# Altium schematic symbol library FireFlow.SchLib: 30 symbols
Pins are listed as number, name and electrical type; pins without a type are passive.

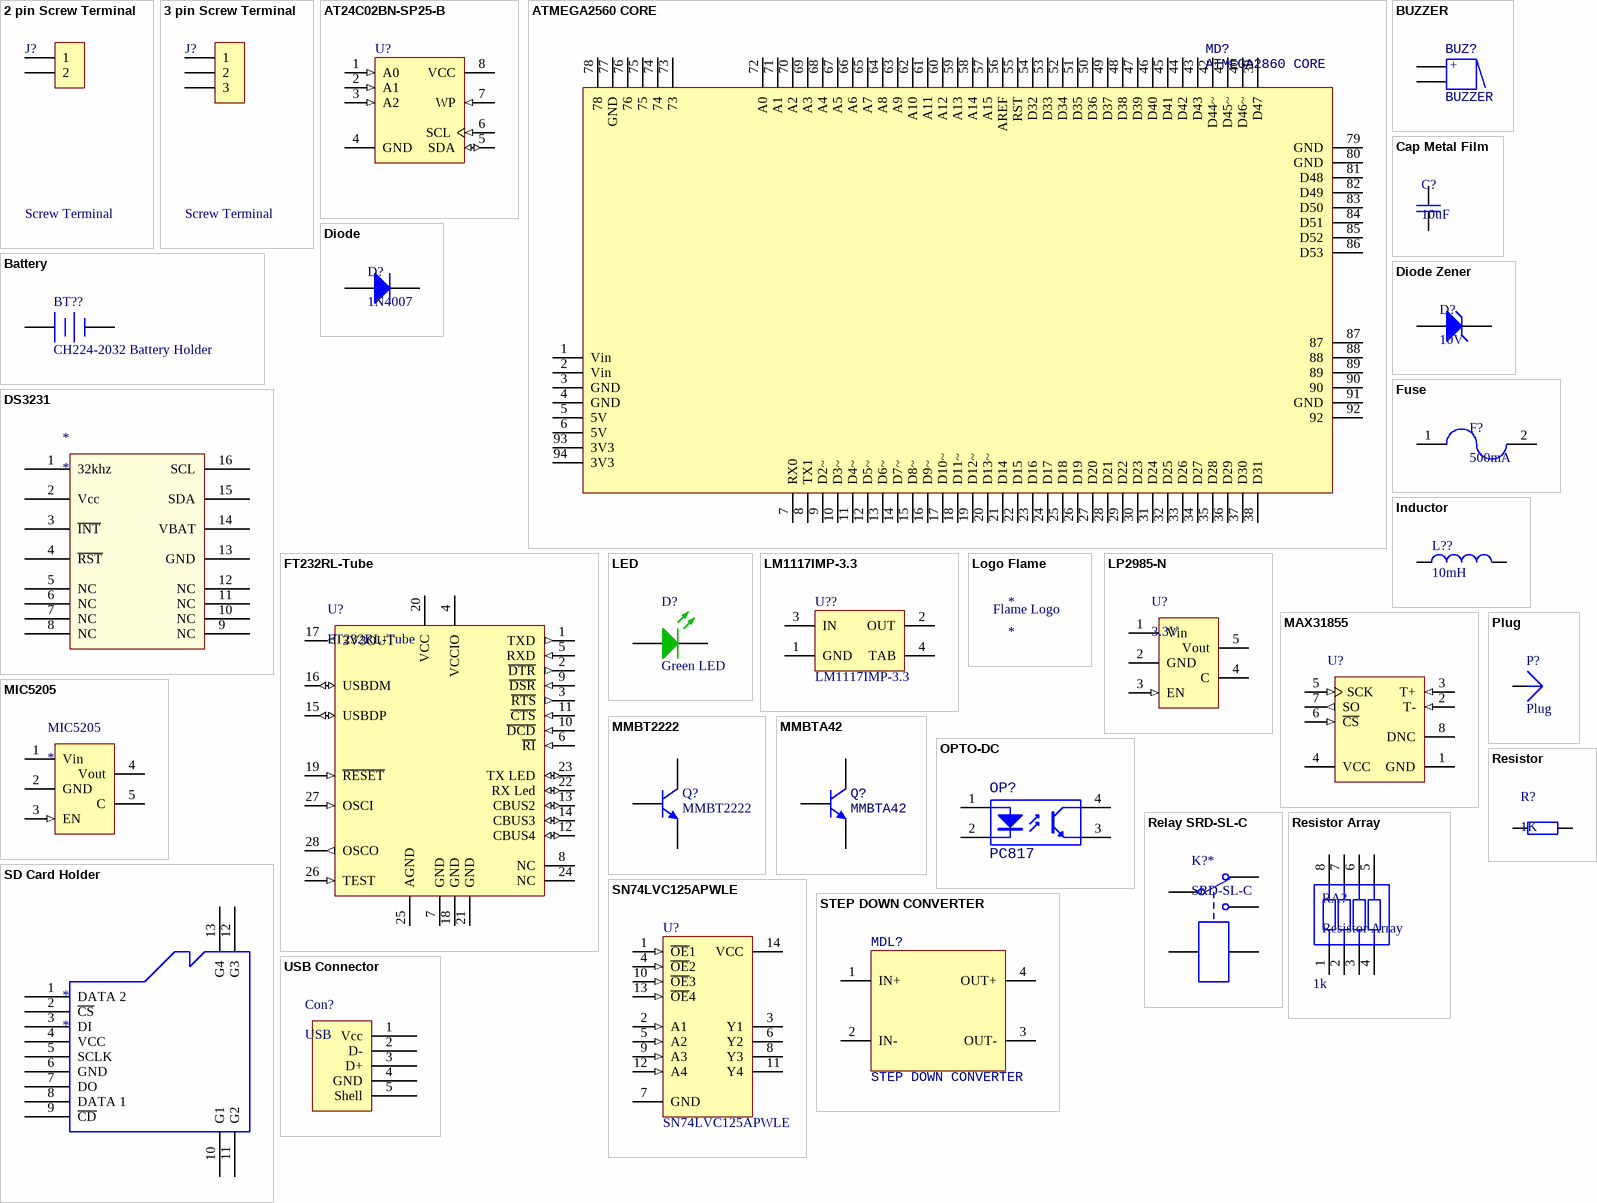
[diagram p0: symbols 2 pin Screw Terminal to USB Connector]

## 2 pin Screw Terminal
designator J?, comment Screw Terminal
WR-TBL Terminal block - serie 102 - 5.0mm; ComponentLink2 Description: Datasheet; NoPins: 2; ComponentLink2URL: http://katalog.we-online.de/em/datasheet/6911027100xx.pdf
footprint 2pin ST (5,00mm - modular - blue - Horizontal entry with pressure clamp - 9,9 mm height - 02p)
pins: 1, 2

## 3 pin Screw Terminal
designator J?, comment Screw Terminal
WR-TBL Terminal block - serie 102 - 5.0mm; ComponentLink2 Description: Datasheet; NoPins: 3; ComponentLink2URL: http://katalog.we-online.de/em/datasheet/6911027100xx.pdf
footprint 3pin ST (5,00mm - modular - blue - Horizontal entry with pressure clamp - 9,9 mm height - 03p)
pins: 1, 2, 3

## AT24C02BN-SP25-B
designator U?
2Kbit (256 x 8), 2-wire Bus Automotive Serial EEPROM with full memory Write Protect, 2.5V, 8-Pin SOIC, Bulk; Published: 20-Sep-2010; DatasheetVersion: 8517C,  Jan-2009; PackageVersion: revC, Mar-2005; PackageReference: 8S1; Publisher: Altium Limited; PackageDescription: 8-Lead (0.150" Wide Body), Plastic Gull Wing Small Outline (JEDEC SOIC); Code_JEDEC: MS-012-AA; Code_IPC: SOIC127P600-8; ComponentLink1Description: Manufacturer Link; ComponentLink1URL: http://www.atmel.com/products/serial/default.asp; ComponentLink2Description: Datasheet; ComponentLink2URL: http://www.atmel.com/dyn/resources/prod_documents/doc8517.pdf; ComponentLink3Description: Atmel.com Home; ComponentLink3URL: http://www.atmel.com
footprint S8 (SOIC, 8-Leads, Body 4.9x3.9mm, Pitch 1.27mm, IPC Low Density)
pins: 1 A0 (in), 2 A1 (in), 3 A2 (in), 4 GND (power), 5 SDA (io), 6 SCL (in), 7 WP (in), 8 VCC (power)

## ATMEGA2560 CORE
designator MD?, comment ATMEGA2860 CORE
footprint ATMEGA 2560 CORE
pins: 1 Vin, 2 Vin, 3 GND, 4 GND, 5 5V, 6 5V, 7 RX0, 8 TX1, 9 D2~, 10 D3~, 11 D4~, 12 D5~, 13 D6~, 14 D7~, 15 D8~, 16 D9~, 17 D10~, 18 D11~, 19 D12~, 20 D13~, 21 D14, 22 D15, 23 D16, 24 D17, 25 D18, 26 D19, 27 D20, 28 D21, 29 D22, 30 D23, 31 D24, 32 D25, 33 D26, 34 D27, 35 D28, 36 D29, 37 D30, 38 D31, 39 D47, 40 D46~, 41 D45~, 42 D44~, 43 D43, 44 D42, 45 D41, 46 D40, 47 D39, 48 D38, 49 D37, 50 D36, 51 D35, 52 D34, 53 D33, 54 D32, 55 RST, 56 AREF, 57 A15, 58 A14, 59 A13, 60 A12, 61 A11, 62 A10, 63 A9, 64 A8, 65 A7, 66 A6, 67 A5, 68 A4, 69 A3, 70 A2, 71 A1, 72 A0, 73, 74, 75, 76, 77 GND, 78, 79 GND, 80 GND, 81 D48, 82 D49, 83 D50, 84 D51, 85 D52, 86 D53, 87, 88, 89, 90, 91 GND, 92, 93 3V3, 94 3V3

## Battery
designator BT??, comment CH224-2032 Battery Holder
Multicell Battery
footprint CH224-2032 Battery Holder
pins: 1 +, 2 -

## BUZZER
designator BUZ?
footprint BUZZER
pins: 1, 2
text: +

## Cap Metal Film
designator C?, comment 10uF
Value: 10uF
footprint CC2013-0805 (Chip Capacitor; Body 2.0 x 1.3 mm (LxW typ))
pins: 1, 2

## Diode
designator D?, comment 1N4007
Value: 1N4007
footprint CD2012-0805 (Chip Diode; Body 2.0 x 1.3 mm (LxW typ))
pins: A, K

## Diode Zener
designator D?, comment 10V
Value: 10V
pins: A, K

## DS3231
designator *
footprint SO-G16/D10.4 (Small Outline, Plastic; 16 Leads; Body Width 7.5 mm)
pins: 1 32khz, 2 Vcc (power), 3 ~{INT}, 4 ~{RST}, 5 NC, 6 NC, 7 NC, 8 NC, 9 NC, 10 NC, 11 NC, 12 NC, 13 GND, 14 VBAT, 15 SDA, 16 SCL

## FT232RL-Tube
designator U?
USB UART Asynchronous Serial Data Transfer Chip, SSOP-28, Tube; PackageReference: SSOP-28; PackageDescription: 28-Pin Small Outline Package 0.65 mm Pitch
footprint SSOP-28_N (SOP, 28-Leads, Body 10.2x5.3mm, Pitch 0.65mm, IPC Medium Density)
pins: 1 TXD (out), 2 ~{DTR} (out), 3 ~{RTS} (out), 4 VCCIO (power), 5 RXD (in), 6 ~{RI} (in), 7 GND (power), 8 NC, 9 ~{DSR} (in), 10 ~{DCD} (in), 11 ~{CTS} (in), 12 CBUS4 (io), 13 CBUS2 (io), 14 CBUS3 (io), 15 USBDP (io), 16 USBDM (io), 17 3V3OUT (out), 18 GND (power), 19 ~{RESET} (in), 20 VCC (power), 21 GND (power), 22 RX Led (io), 23 TX LED (io), 24 NC, 25 AGND (power), 26 TEST (in), 27 OSCI (in), 28 OSCO (out)

## Fuse
designator F?, comment 500mA
PPTC; Value: 500mA
footprint CF-1812 (Chip Resistor; Body 4.5 x 3.2 mm (LxW typ))
pins: 1, 2

## Inductor
designator L??, comment 10mH
Inductor; Value: 10mH
footprint INDC2012-0805 (Chip Inductor; Body 2 x 1.2 mm (LxW typ))
pins: 1, 2

## LED
designator D?, comment Green LED
RED
footprint CD3216-1206 (Chip Diode; Body 3.2 x 1.6 mm (LxW typ))
pins: 1 A, 2 K

## LM1117IMP-3.3
designator U??
800mA Low-Dropout Linear Regulator, 4-pin SOT-223; Manufacturer: National Semiconductor; PackageTopMarking: XYTT*N05B; PowerWise: N; CompType: LDO IC; Published: 4-Dec-2008; DatasheetVersion: Apr-2006; PackageVersion: revB, Apr-2003; PackageReference: MP04A; Publisher: Altium Limited; PackageDescription: Molded SOT-223, 6.50 x 3.56 x 1.6mm Body, 4 Lead, 2.3mm Pitch; PartNumber: LM1117IMP-3.3; RoHS: N; PinCount: 4; Code_JEDEC: TO-261-AA; Code_IPC: SOT223-4; ComponentLink1Description: LM1117 Datasheet; ComponentLink1URL: http://www.national.com/ds/LM/LM1117.pdf; ComponentLink2Description: LM1117 Web Page; ComponentLink2URL: http://www.national.com/pf/LM/LM1117.html; ComponentLink3Description: MP04A Package Page; ComponentLink3URL: http://www.national.com/packaging/folders/mp04a.html
footprint MP04A_N (SOT223, 4-Leads, Body 6.5x3.5mm, Pitch 2.3mm, Lead Span 7mm, IPC Medium Density)
pins: 1 GND (power), 2 OUT (power), 3 IN (power), 4 TAB (power)

## Logo Flame
designator *
footprint LogoF Bot Cu (Flame Logo on Bot Cu)
footprint LogoF Bot OL (Flame Logo on Bot OverLay)
footprint LogoF Top Cu (Flame Logo on Top Cu)
footprint LogoF Top OL (Logo Flame Top OverLay)
text: Flame Logo

## LP2985-N
designator U?, comment 3.3V
Value: 3.3V
footprint SO-G5/P.95 (SOT-23/SC-74A; 5 Leads; Body 3.1 x 3 mm, inc. leads (LxW max))
pins: 1 Vin (power), 2 GND (power), 3 EN (in), 4 C, 5 Vout (power)

## MAX31855
designator U?
Cold Junction Compensated Thermocouple to Digital Converter, 14 Bits Temperature Resolution, -40 to 125 degC, 8-Pin SOIC (S8+4), Pb-Free, Tape ang Reel; Generic Part Number: MAX31855; Functions: Thermocouple-to-Digital Converter; Interface: SPI; PackageReference: S8+4; PackageDescription: 8-Pin Small-Outline IC, Narrow, Body 3.9 x 4.9 mm, Pitch 1.27 mm; Mounting Technology: Surface Mount
footprint S8 (SOIC, 8-Leads, Body 4.9x3.9mm, Pitch 1.27mm, IPC Low Density)
pins: 1 GND (power) "Ground", 2 T- (in) "Thermocouple Input. See Table 1. Do not connect to GND.", 3 T+ (in) "Thermocouple Input. See Table 1.", 4 VCC (power) "Power-Supply Voltage", 5 SCK (in) "Serial-Clock Input", 6 ~{CS} (in) "Active-Low Chip Select. Set C\S\ low to enable the serial interface.", 7 SO (out) "Serial-Data Output", 8 DNC "Do Not Connect"

## MIC5205
designator MIC5205
footprint SO-G5/P.95 (SOT-23/SC-74A; 5 Leads; Body 3.1 x 3 mm, inc. leads (LxW max))
pins: 1 Vin (power), 2 GND (power), 3 EN (in), 4 Vout (power), 5 C

## MMBT2222
designator Q?
NPN General Purpose Amplifier; Value: MMBT2222
footprint SO-G3 (SOT-23; 3 Leads; Body 3.0 x 2.6 mm, inc. leads (LxW max))
pins: 1 B, 2 E, 3 C

## MMBTA42
designator Q?
NPN Bipolar Transistor; Published: 8-Jun-2000; LatestRevisionDate: 17-Jul-2002; LatestRevisionNote: Re-released for DXP Platform.; PackageReference: TO-226; Publisher: Altium Limited; Code_JEDEC: TO-226-AA
footprint SO-G3 (SOT-23; 3 Leads; Body 3.0 x 2.6 mm, inc. leads (LxW max))
pins: 1 B, 2 E, 3 C

## OPTO-DC
designator OP?, comment PC817
DC OPTOCUPLER
footprint DIP-4
pins: 1 A, 2 K, 3 E, 4 C

## Plug
designator P?
LatestRevisionDate: 17-Jul-2002; LatestRevisionNote: Re-released for DXP Platform.; Publisher: Altium Limited
footprint PIN1 (Connector; Plug)
pins: 1

## Relay SRD-SL-C
designator K?*, comment SRD-SL-C
footprint SRD-SL-C
pins: 1, 2, 3, 4, 5

## Resistor
designator R?, comment 1K
Value: 1K
footprint CR2012-0805 (Chip Resistor; Body 2.0 x 1.3 mm (LxW typ))
footprint CR1608-0603 (Chip Resistor; Body 1.6 x 0.8 mm (LxW typ))
pins: 1, 2

## Resistor Array
designator RA?  value 1k
footprint EXB38V (Chip Resistor Array, (0603x4); SM; 8 Leads; Body 3.40 x 1.75 mm (LxW max))
pins: 1, 2, 3, 4, 5, 6, 7, 8

## SD Card Holder
designator *
footprint Micro SD Card holder
pins: 1 DATA 2, 2 ~{CS}, 3 DI, 4 VCC, 5 SCLK, 6 GND, 7 DO, 8 DATA 1, 9 ~{CD}, 10 G1, 11 G2, 12 G3, 13 G4

## SN74LVC125APWLE
designator U?
Quadruple Bus Buffer Gate with 3-State Outputs
footprint PW014_N (TSOP, 14-Leads, Body 5x4.4mm, Pitch 0.65mm, IPC Medium Density)
pins: 1 ~{OE}1 (in), 2 A1 (in), 3 Y1 (hiz), 4 ~{OE}2 (in), 5 A2 (in), 6 Y2 (hiz), 7 GND (power), 8 Y3 (hiz), 9 A3 (in), 10 ~{OE}3 (in), 11 Y4 (hiz), 12 A4 (in), 13 ~{OE}4 (in), 14 VCC (power)

## STEP DOWN CONVERTER
designator MDL?
footprint STEP DOWN CONVERTER MINI
pins: 1 IN+, 2 IN-, 3 OUT-, 4 OUT+

## USB Connector
designator Con?, comment USB
footprint USB A
pins: 1 Vcc, 2 D-, 3 D+, 4 GND, 5 Shell